# EAGLE library part JTAG-ARM (library Virulent_HW)
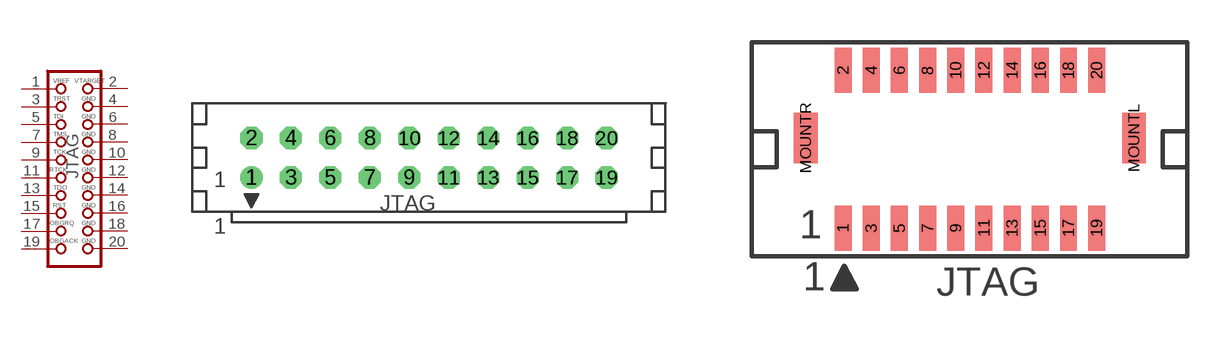
[diagram p1: symbol with the pads of JTAG-ARM; footprints JTAG-ARM, JTAG-MINI-ARM]

Designator prefix JTAG

## JTAG-ARM  [JTAG-ARM]
1  1  pas
2  2  pas
3  3  pas
4  4  pas
5  5  pas
6  6  pas
7  7  pas
8  8  pas
9  9  pas
10  10  pas
11  11  pas
12  12  pas
13  13  pas
14  14  pas
15  15  pas
16  16  pas
17  17  pas
18  18  pas
19  19  pas
20  20  pas

## JTAG-ARMJTAG-MINI-ARM  [JTAG-MINI-ARM]
Pads as for JTAG-ARM

## JTAG-ARMBIG_HOLE  [JTAG-ARM2]
Pads as for JTAG-ARM

## Footprint JTAG-ARM (pad centres in mm)
drill 0.914: 1 -11.43,-1.27
drill 0.914 octagon: 2 -11.43,1.27; 3 -8.89,-1.27; 4 -8.89,1.27; 5 -6.35,-1.27; 6 -6.35,1.27; 7 -3.81,-1.27; 8 -3.81,1.27; 9 -1.27,-1.27; 10 -1.27,1.27; 11 1.27,-1.27; 12 1.27,1.27; 13 3.81,-1.27; 14 3.81,1.27; 15 6.35,-1.27; 16 6.35,1.27; 17 8.89,-1.27; 18 8.89,1.27; 19 11.43,-1.27; 20 11.43,1.27

## Footprint JTAG-MINI-ARM (pad centres in mm)
smd 0.6 x 1.6: 1 -5,-2.8; 2 -5,2.8; 3 -4,-2.8; 4 -4,2.8; 5 -3,-2.8; 6 -3,2.8; 7 -2,-2.8; 8 -2,2.8; 9 -1,-2.8; 10 -1,2.8; 11 0,-2.8; 12 0,2.8; 13 1,-2.8; 14 1,2.8; 15 2,-2.8; 16 2,2.8; 17 3,-2.8; 18 3,2.8; 19 4,-2.8; 20 4,2.8
smd 0.85 x 1.8: MOUNTL 5.325,0.4; MOUNTR -6.325,0.4

## Footprint JTAG-ARM2 (pad centres in mm)
drill 1 offset: 1 -11.43,-1.27; 2 -11.43,1.27; 3 -8.89,-1.27; 4 -8.89,1.27; 5 -6.35,-1.27; 6 -6.35,1.27; 7 -3.81,-1.27; 8 -3.81,1.27; 9 -1.27,-1.27; 10 -1.27,1.27; 11 1.27,-1.27; 12 1.27,1.27; 13 3.81,-1.27; 14 3.81,1.27; 15 6.35,-1.27; 16 6.35,1.27; 17 8.89,-1.27; 18 8.89,1.27; 19 11.43,-1.27; 20 11.43,1.27